# Altium schematic symbol library Infineon.SchLib: 4 symbols
Pins are listed as number, name and electrical type; pins without a type are passive.

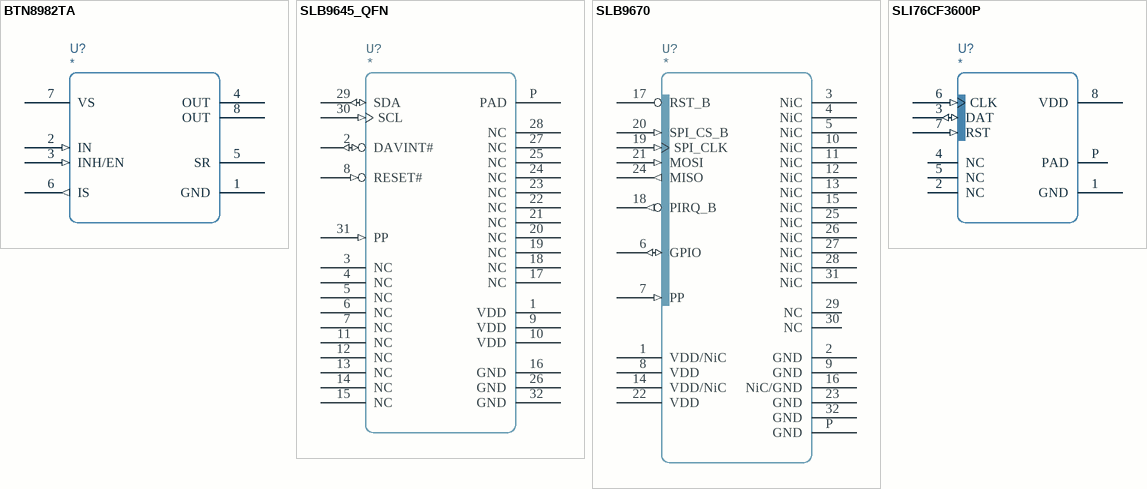
[diagram p0: symbols BTN8982TA to SLI76CF3600P]

## BTN8982TA
designator U?
pins: 1 GND, 2 IN (in), 3 INH/EN (in), 4 OUT, 5 SR, 6 IS (out), 7 VS, 8 OUT

## SLB9645_QFN
designator U?
pins: 1 VDD, 2 DAVINT# (io), 3 NC, 4 NC, 5 NC, 6 NC, 7 NC, 8 RESET# (in), 9 VDD, 10 VDD, 11 NC, 12 NC, 13 NC, 14 NC, 15 NC, 16 GND, 17 NC, 18 NC, 19 NC, 20 NC, 21 NC, 22 NC, 23 NC, 24 NC, 25 NC, 26 GND, 27 NC, 28 NC, 29 SDA (io), 30 SCL (in), 31 PP (in), 32 GND, P PAD

## SLB9670
designator U?
pins: 1 VDD/NiC, 2 GND, 3 NiC, 4 NiC, 5 NiC, 6 GPIO (io), 7 PP (in), 8 VDD, 9 GND, 10 NiC, 11 NiC, 12 NiC, 13 NiC, 14 VDD/NiC, 15 NiC, 16 NiC/GND, 17 RST_B, 18 PIRQ_B (out), 19 SPI_CLK (in), 20 SPI_CS_B (in), 21 MOSI (in), 22 VDD, 23 GND, 24 MISO (out), 25 NiC, 26 NiC, 27 NiC, 28 NiC, 29 NC, 30 NC, 31 NiC, 32 GND, P GND

## SLI76CF3600P
designator U?
pins: 1 GND, 2 NC, 3 DAT (io), 4 NC, 5 NC, 6 CLK (in), 7 RST (in), 8 VDD, P PAD